# Altium schematic symbol library Schlib2.SchLib: 1 symbol
Pins are listed as number, name and electrical type; pins without a type are passive.

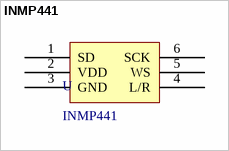
[diagram p0: symbol INMP441]

## INMP441
designator U
footprint INMP441board
pins: 1 SD, 2 VDD, 3 GND, 4 L/R, 5 WS, 6 SCK